# EAGLE library part STM8S20_K_T_C (library X893)
STM8S207K http://www.st.com/stonline/products/literature/ds/14733.pdf
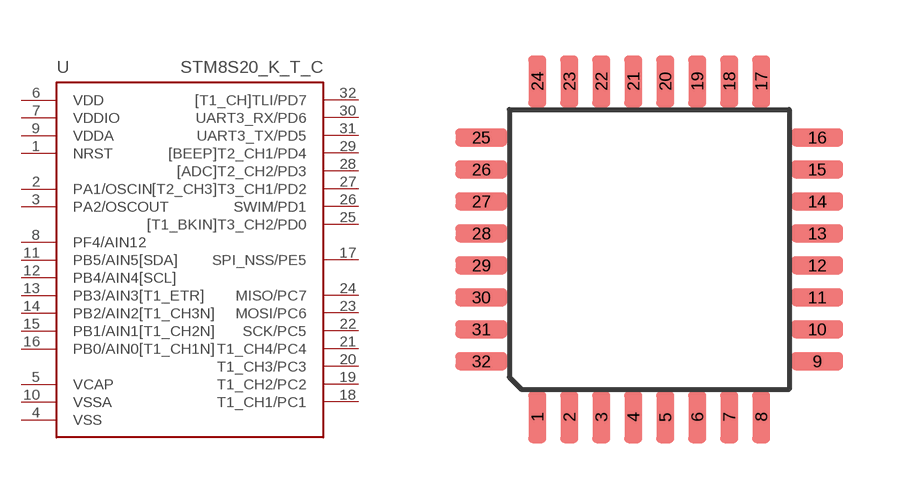
[diagram p86: symbol with the pads of LQFP32; footprint LQFP32]

Designator prefix U

## STM8S20_K_T_C  [LQFP32]
1  NRST
2  PA1/OSCIN
3  PA2/OSCOUT
4  VSS
5  VCAP
6  VDD
7  VDDIO
8  PF4/AIN12
9  VDDA
10  VSSA
11  PB5/AIN5[SDA]
12  PB4/AIN4[SCL]
13  PB3/AIN3[T1_ETR]
14  PB2/AIN2[T1_CH3N]
15  PB1/AIN1[T1_CH2N]
16  PB0/AIN0[T1_CH1N]
17  SPI_NSS/PE5
18  T1_CH1/PC1
19  T1_CH2/PC2
20  T1_CH3/PC3
21  T1_CH4/PC4
22  SCK/PC5
23  MOSI/PC6
24  MISO/PC7
25  [T1_BKIN]T3_CH2/PD0
26  SWIM/PD1
27  [T2_CH3]T3_CH1/PD2
28  [ADC]T2_CH2/PD3
29  [BEEP]T2_CH1/PD4
30  UART3_RX/PD6
31  UART3_TX/PD5
32  [T1_CH]TLI/PD7

## Footprint LQFP32 (pad centres in mm)
LQFP-32 package 7x7 mm case, 0.8 mm lead pitch
smd 0.45 x 1.3: 1 -2.8,-4.2; 2 -2,-4.2; 3 -1.2,-4.2; 4 -0.4,-4.2; 5 0.4,-4.2; 6 1.2,-4.2; 7 2,-4.2; 8 2.8,-4.2; 17 2.8,4.2; 18 2,4.2; 19 1.2,4.2; 20 0.4,4.2; 21 -0.4,4.2; 22 -1.2,4.2; 23 -2,4.2; 24 -2.8,4.2
smd 1.3 x 0.45: 9 4.2,-2.8; 10 4.2,-2; 11 4.2,-1.2; 12 4.2,-0.4; 13 4.2,0.4; 14 4.2,1.2; 15 4.2,2; 16 4.2,2.8; 25 -4.2,2.8; 26 -4.2,2; 27 -4.2,1.2; 28 -4.2,0.4; 29 -4.2,-0.4; 30 -4.2,-1.2; 31 -4.2,-2; 32 -4.2,-2.8